# EAGLE library part 61-23_R6GHBHC-A01_ET (library raveGear301)
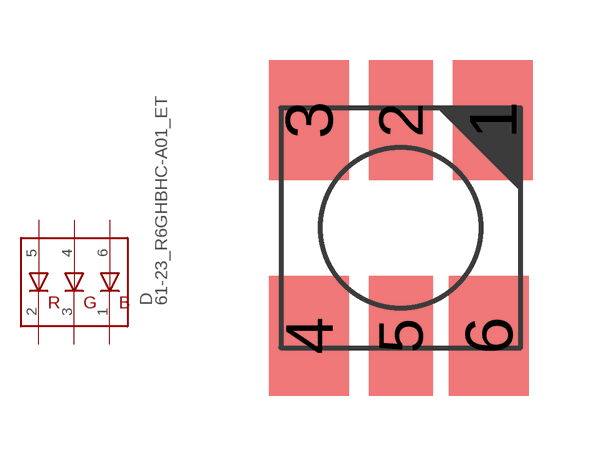
[diagram p0: symbol with the pads of LF-6; footprint LF-6]

Designator prefix D

## 61-23_R6GHBHC-A01_ET  [LF-6]
1  CB  pas
2  CR  pas
3  CG  pas
4  AG  pas
5  AR  pas
6  AB  pas

## Footprint LF-6 (pad centres in mm)
smd 2 x 3: 1 2.3,2.7; 3 -2.3,2.7; 4 -2.3,-2.7; 6 2.2,-2.7
smd 1.6 x 3: 2 0,2.7; 5 0,-2.7